# Altium schematic symbol library BleANT.SchLib: 1 symbol
Pins are listed as number, name and electrical type; pins without a type are passive.

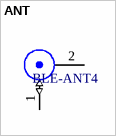
[diagram p0: symbol ANT]

## ANT
designator ?, comment BLE-ANT4
footprint BLE-ANTS2
pins: 1 (io), 2 (power)